# EAGLE library part SN74LVC3GU04 (library ASL)
Triple Inverter from TI
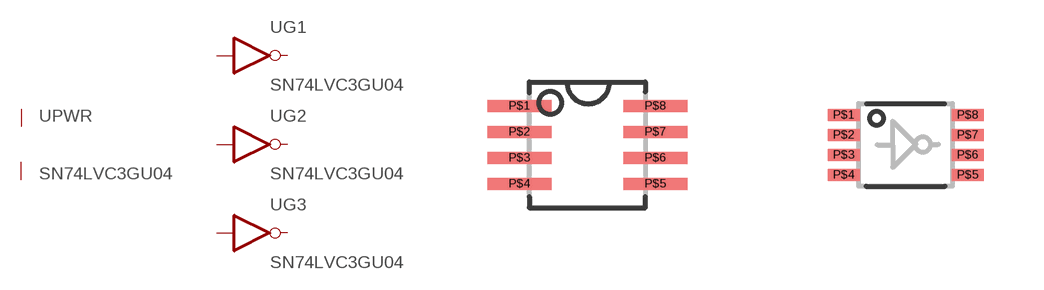
[diagram p24: symbol with the pads of DCT8; footprints DCT8, DCU8]

Designator prefix U; gates G1=INVERTER G2=INVERTER G3=INVERTER PWR=INVERTER_POWER

## SN74LVC3GU04_DCT  [DCT8]
P$1  G1:I  in
P$2  G3:O  out
P$3  G2:I  in
P$4  PWR:GND  pwr
P$5  G2:O  out
P$6  G3:I  in
P$7  G1:O  out
P$8  PWR:V+  pwr

## SN74LVC3GU04_DCU  [DCU8]
Pads as for DCT8

## Footprint DCT8 (pad centres in mm)
smd 1.6 x 0.3: P$1 -1.7,0.975; P$2 -1.7,0.325; P$3 -1.7,-0.325; P$4 -1.7,-0.975; P$5 1.7,-0.975; P$6 1.7,-0.325; P$7 1.7,0.325; P$8 1.7,0.975

## Footprint DCU8 (pad centres in mm)
smd 0.8 x 0.3: P$1 -1.55,0.75; P$2 -1.55,0.25; P$3 -1.55,-0.25; P$4 -1.55,-0.75; P$5 1.55,-0.75; P$6 1.55,-0.25; P$7 1.55,0.25; P$8 1.55,0.75